# Altium schematic symbol library rp3a0.SchLib: 2 symbols
Pins are listed as number, name and electrical type; pins without a type are passive.

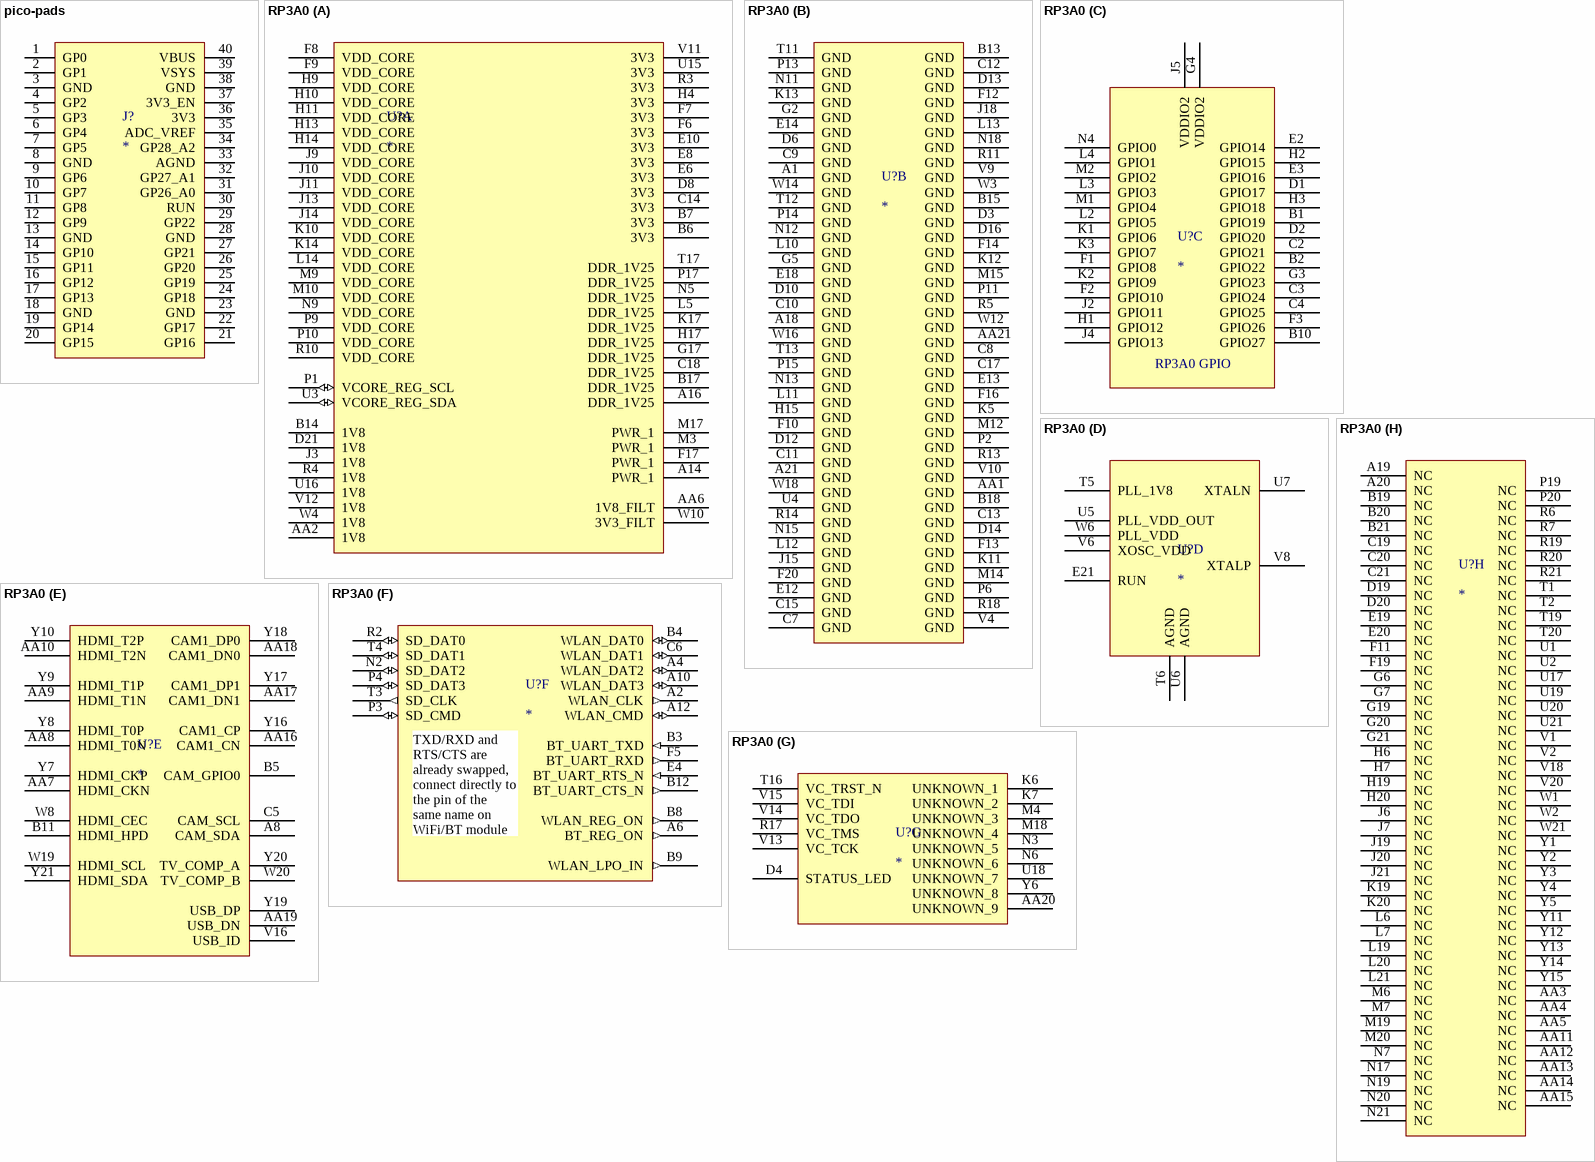
[diagram p0: symbols pico-pads to RP3A0]

## pico-pads
designator J?
footprint PICO_PADS
pins: 1 GP0, 2 GP1, 3 GND, 4 GP2, 5 GP3, 6 GP4, 7 GP5, 8 GND, 9 GP6, 10 GP7, 11 GP8, 12 GP9, 13 GND, 14 GP10, 15 GP11, 16 GP12, 17 GP13, 18 GND, 19 GP14, 20 GP15, 21 GP16, 22 GP17, 23 GND, 24 GP18, 25 GP19, 26 GP20, 27 GP21, 28 GND, 29 GP22, 30 RUN, 31 GP26_A0, 32 GP27_A1, 33 AGND, 34 GP28_A2, 35 ADC_VREF, 36 3V3, 37 3V3_EN, 38 GND, 39 VSYS, 40 VBUS

## RP3A0
designator U?
footprint RP3A0-BGA
part A pins: A14 PWR_1 (power), A16 DDR_1V25 (power), AA2 1V8 (power), AA6 1V8_FILT (power), B6 3V3 (power), B7 3V3 (power), B14 1V8 (power), B17 DDR_1V25 (power), C14 3V3 (power), C18 DDR_1V25 (power), D8 3V3 (power), D21 1V8 (power), E6 3V3 (power), E8 3V3 (power), E10 3V3 (power), F6 3V3 (power), F7 3V3 (power), F8 VDD_CORE (power), F9 VDD_CORE (power), F17 PWR_1 (power), G17 DDR_1V25 (power), H4 3V3 (power), H9 VDD_CORE (power), H10 VDD_CORE (power), H11 VDD_CORE (power), H13 VDD_CORE (power), H14 VDD_CORE (power), H17 DDR_1V25 (power), J3 1V8 (power), J9 VDD_CORE (power), J10 VDD_CORE (power), J11 VDD_CORE (power), J13 VDD_CORE (power), J14 VDD_CORE (power), K10 VDD_CORE (power), K14 VDD_CORE (power), K17 DDR_1V25 (power), L5 DDR_1V25 (power), L14 VDD_CORE (power), M3 PWR_1 (power), M9 VDD_CORE (power), M10 VDD_CORE (power), M17 PWR_1 (power), N5 DDR_1V25 (power), N9 VDD_CORE (power), P1 VCORE_REG_SCL (io), P9 VDD_CORE (power), P10 VDD_CORE (power), P17 DDR_1V25 (power), R3 3V3 (power), R4 1V8 (power), R10 VDD_CORE (power), T17 DDR_1V25 (power), U3 VCORE_REG_SDA (io), U15 3V3 (power), U16 1V8 (power), V11 3V3 (power), V12 1V8 (power), W4 1V8 (power), W10 3V3_FILT (power)
part B pins: A1 GND, A18 GND, A21 GND, AA1 GND, AA21 GND, B13 GND, B15 GND, B18 GND, C7 GND, C8 GND, C9 GND, C10 GND, C11 GND, C12 GND, C13 GND, C15 GND, C17 GND, D3 GND, D6 GND, D10 GND, D12 GND, D13 GND, D14 GND, D16 GND, E12 GND, E13 GND, E14 GND, E18 GND, F10 GND, F12 GND, F13 GND, F14 GND, F16 GND, F20 GND, G2 GND, G5 GND, H15 GND, J15 GND, J18 GND, K5 GND, K11 GND, K12 GND, K13 GND, L10 GND, L11 GND, L12 GND, L13 GND, M12 GND, M14 GND, M15 GND, N11 GND, N12 GND, N13 GND, N15 GND, N18 GND, P2 GND, P6 GND, P11 GND, P13 GND, P14 GND, P15 GND, R5 GND, R11 GND, R13 GND, R14 GND, R18 GND, T11 GND, T12 GND, T13 GND, U4 GND, V4 GND, V9 GND, V10 GND, W3 GND, W12 GND, W14 GND, W16 GND, W18 GND
part C pins: B1 GPIO19, B2 GPIO22, B10 GPIO27, C2 GPIO21, C3 GPIO24, C4 GPIO25, D1 GPIO17, D2 GPIO20, E2 GPIO14, E3 GPIO16, F1 GPIO8, F2 GPIO10, F3 GPIO26, G3 GPIO23, G4 VDDIO2, H1 GPIO12, H2 GPIO15, H3 GPIO18, J2 GPIO11, J4 GPIO13, J5 VDDIO2, K1 GPIO6, K2 GPIO9, K3 GPIO7, L2 GPIO5, L3 GPIO3, L4 GPIO1, M1 GPIO4, M2 GPIO2, N4 GPIO0
part D pins: E21 RUN, T5 PLL_1V8, T6 AGND, U5 PLL_VDD_OUT, U6 AGND, U7 XTALN, V6 XOSC_VDD, V8 XTALP, W6 PLL_VDD
part E pins: A8 CAM_SDA, AA7 HDMI_CKN, AA8 HDMI_T0N, AA9 HDMI_T1N, AA10 HDMI_T2N, AA16 CAM1_CN, AA17 CAM1_DN1, AA18 CAM1_DN0, AA19 USB_DN, B5 CAM_GPIO0, B11 HDMI_HPD, C5 CAM_SCL, V16 USB_ID, W8 HDMI_CEC, W19 HDMI_SCL, W20 TV_COMP_B, Y7 HDMI_CKP, Y8 HDMI_T0P, Y9 HDMI_T1P, Y10 HDMI_T2P, Y16 CAM1_CP, Y17 CAM1_DP1, Y18 CAM1_DP0, Y19 USB_DP, Y20 TV_COMP_A, Y21 HDMI_SDA
part F pins: A2 WLAN_CLK (out), A4 WLAN_DAT2 (io), A6 BT_REG_ON (out), A10 WLAN_DAT3 (io), A12 WLAN_CMD (io), B3 BT_UART_TXD (in), B4 WLAN_DAT0 (io), B8 WLAN_REG_ON (out), B9 WLAN_LPO_IN (out), B12 BT_UART_CTS_N (out), C6 WLAN_DAT1 (io), E4 BT_UART_RTS_N (in), F5 BT_UART_RXD (out), N2 SD_DAT2 (io), P3 SD_CMD (io), P4 SD_DAT3 (io), R2 SD_DAT0 (io), T3 SD_CLK (out), T4 SD_DAT1 (io)
part G pins: AA20 UNKNOWN_9, D4 STATUS_LED, K6 UNKNOWN_1, K7 UNKNOWN_2, M4 UNKNOWN_3, M18 UNKNOWN_4, N3 UNKNOWN_5, N6 UNKNOWN_6, R17 VC_TMS, T16 VC_TRST_N, U18 UNKNOWN_7, V13 VC_TCK, V14 VC_TDO, V15 VC_TDI, Y6 UNKNOWN_8
part H pins: A19 NC, A20 NC, AA3 NC, AA4 NC, AA5 NC, AA11 NC, AA12 NC, AA13 NC, AA14 NC, AA15 NC, B19 NC, B20 NC, B21 NC, C19 NC, C20 NC, C21 NC, D19 NC, D20 NC, E19 NC, E20 NC, F11 NC, F19 NC, G6 NC, G7 NC, G19 NC, G20 NC, G21 NC, H6 NC, H7 NC, H19 NC, H20 NC, J6 NC, J7 NC, J19 NC, J20 NC, J21 NC, K19 NC, K20 NC, L6 NC, L7 NC, L19 NC, L20 NC, L21 NC, M6 NC, M7 NC, M19 NC, M20 NC, N7 NC, N17 NC, N19 NC, N20 NC, N21 NC, P19 NC, P20 NC, R6 NC, R7 NC, R19 NC, R20 NC, R21 NC, T1 NC, T2 NC, T19 NC, T20 NC, U1 NC, U2 NC, U17 NC, U19 NC, U20 NC, U21 NC, V1 NC, V2 NC, V18 NC, V20 NC, W1 NC, W2 NC, W21 NC, Y1 NC, Y2 NC, Y3 NC, Y4 NC, Y5 NC, Y11 NC, Y12 NC, Y13 NC, Y14 NC, Y15 NC
part C text: RP3A0 GPIO
part F text: TXD/RXD and RTS/CTS are already swapped, connect directly to the pin of the same name on WiFi/BT module